# EAGLE library part DRV88* (library texas)
The DRV8825 provides an integrated motor driver solution for printers, scanners, and other automated equipment applications. The device has two H-bridge drivers and a microstepping indexer, and is intended to drive a bipolar stepper motor. The output driver block consists of N-channel power MOSFET's configured as full H-bridges to drive the motor windings.
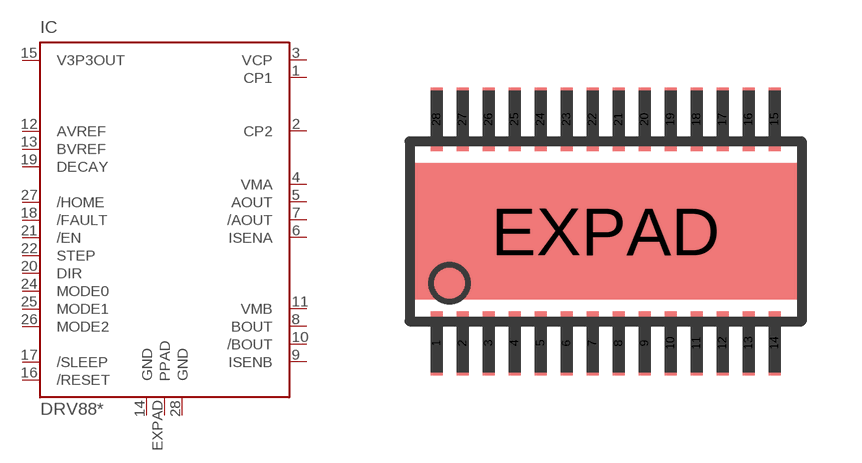
[diagram p30: symbol with the pads of HTSSOP28; footprint HTSSOP28]

Designator prefix IC

## DRV8824, DRV8825  [HTSSOP28]
1  CP1  pas
2  CP2  pas
3  VCP  pas
4  VMA  pwr
5  AOUT  out
6  ISENA  out
7  /AOUT  out
8  BOUT  out
9  ISENB  out
10  /BOUT  out
11  VMB  pwr
12  AVREF  in
13  BVREF  in
14  GND  pwr
15  V3P3OUT  sup
16  /RESET  in
17  /SLEEP  in
18  /FAULT  out
19  DECAY  in
20  DIR  in
21  /EN  in
22  STEP  in
24  MODE0  in
25  MODE1  in
26  MODE2  in
27  /HOME  out
28  GND  pwr
EXPAD  PPAD  pwr

## Footprint HTSSOP28 (pad centres in mm)
smd 0.3 x 1.6: 1 -4.225,-2.8; 2 -3.575,-2.8; 3 -2.925,-2.8; 4 -2.275,-2.8; 5 -1.625,-2.8; 6 -0.975,-2.8; 7 -0.325,-2.8; 8 0.325,-2.8; 9 0.975,-2.8; 10 1.625,-2.8; 11 2.275,-2.8; 12 2.925,-2.8; 13 3.575,-2.8; 14 4.225,-2.8; 15 4.225,2.8; 16 3.575,2.8; 17 2.925,2.8; 18 2.275,2.8; 19 1.625,2.8; 20 0.975,2.8; 21 0.325,2.8; 22 -0.325,2.8; 23 -0.975,2.8; 24 -1.625,2.8; 25 -2.275,2.8; 26 -2.925,2.8; 27 -3.575,2.8; 28 -4.225,2.8
smd 9.7 x 3.4: EXPAD 0,0